# Altium schematic symbol library B66232_30_15_7.SchLib: 1 symbol
Pins are listed as number, name and electrical type; pins without a type are passive.

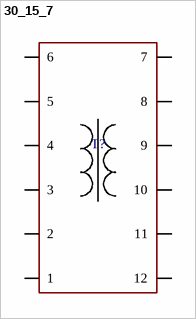
[diagram p0: symbol 30_15_7]

## 30_15_7
designator T?  (value not drawn)
footprint B66232_vertical
pins: 1, 2, 3, 4, 5, 6, 7, 8, 9, 10, 11, 12